# EAGLE library part RASPBERRY_PICO (library ruark2)
Raspberry Pi Pico
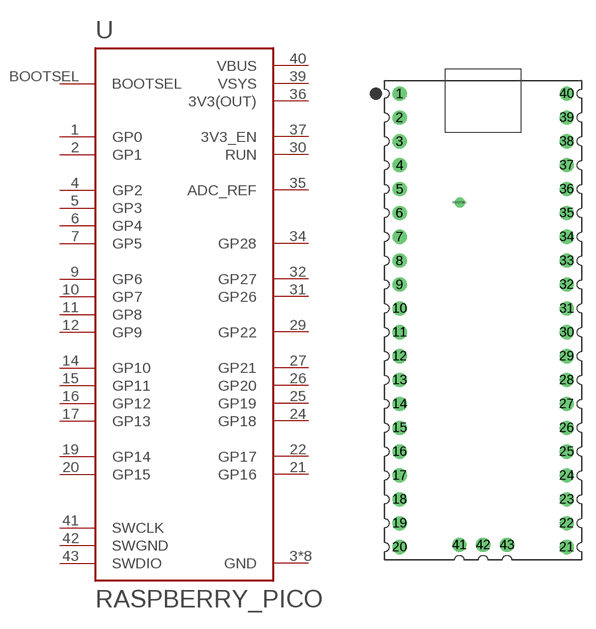
[diagram p189: symbol with the pads of PICO-PKG-TH; footprint PICO-PKG-TH]

Designator prefix U

## RASPBERRY_PICOTH  [PICO-PKG-TH]
1  GP0
2  GP1
3  GND  pwr
4  GP2
5  GP3
6  GP4
7  GP5
8  GND  pwr
9  GP6
10  GP7
11  GP8
12  GP9
13  GND  pwr
14  GP10
15  GP11
16  GP12
17  GP13
18  GND  pwr
19  GP14
20  GP15
21  GP16
22  GP17
23  GND  pwr
24  GP18
25  GP19
26  GP20
27  GP21
28  GND  pwr
29  GP22
30  RUN  in
31  GP26
32  GP27
33  GND  pwr
34  GP28
35  ADC_REF  in
36  3V3(OUT)  pwr
37  3V3_EN  in
38  GND  pwr
39  VSYS  pwr
40  VBUS  pwr
41  SWCLK  in
42  SWGND  pwr
43  SWDIO
BOOTSEL  BOOTSEL

## Footprint PICO-PKG-TH (pad centres in mm)
drill 1: 1 -8.89,24.13; 2 -8.89,21.59; 3 -8.89,19.05; 4 -8.89,16.51; 5 -8.89,13.97; 6 -8.89,11.43; 7 -8.89,8.89; 8 -8.89,6.35; 9 -8.89,3.81; 10 -8.89,1.27; 11 -8.89,-1.27; 12 -8.89,-3.81; 13 -8.89,-6.35; 14 -8.89,-8.89; 15 -8.89,-11.43; 16 -8.89,-13.97; 17 -8.89,-16.51; 18 -8.89,-19.05; 19 -8.89,-21.59; 20 -8.89,-24.13; 21 8.89,-24.13; 22 8.89,-21.59; 23 8.89,-19.05; 24 8.89,-16.51; 25 8.89,-13.97; 26 8.89,-11.43; 27 8.89,-8.89; 28 8.89,-6.35; 29 8.89,-3.81; 30 8.89,-1.27; 31 8.89,1.27; 32 8.89,3.81; 33 8.89,6.35; 34 8.89,8.89; 35 8.89,11.43; 36 8.89,13.97; 37 8.89,16.51; 38 8.89,19.05; 39 8.89,21.59; 40 8.89,24.13; 41 -2.54,-23.9; 42 0,-23.9; 43 2.54,-23.9
drill 0.584: BOOTSEL -2.489,12.522